# Altium schematic symbol library VEML7700-TT.SchLib: 1 symbol
Pins are listed as number, name and electrical type; pins without a type are passive.

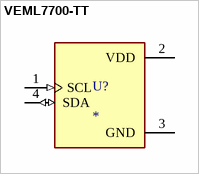
[diagram p0: symbol VEML7700-TT]

## VEML7700-TT
designator U?
MF: {'manufacturer': u'Vishay Semiconductor'}; MP: VEML7700-TT; Package: None; Price: None; Value: *; Availability: Unavailable
footprint XDCR_VEML7700-TT
pins: 1 SCL (in), 2 VDD (power), 3 GND (power), 4 SDA (io)